# Altium footprint library WL-SMCW_1206.PcbLib: 1 footprints
Each footprint in its own frame and in the unit in brackets; x right, y up, seen from the top. Pads: shape width x height; smd on the part's side, far side on the other; paste and mask are expansions set on the pad; w line width, h text height; cw(c..) or ccw(c..) is an arc to the next point about the centre after c.
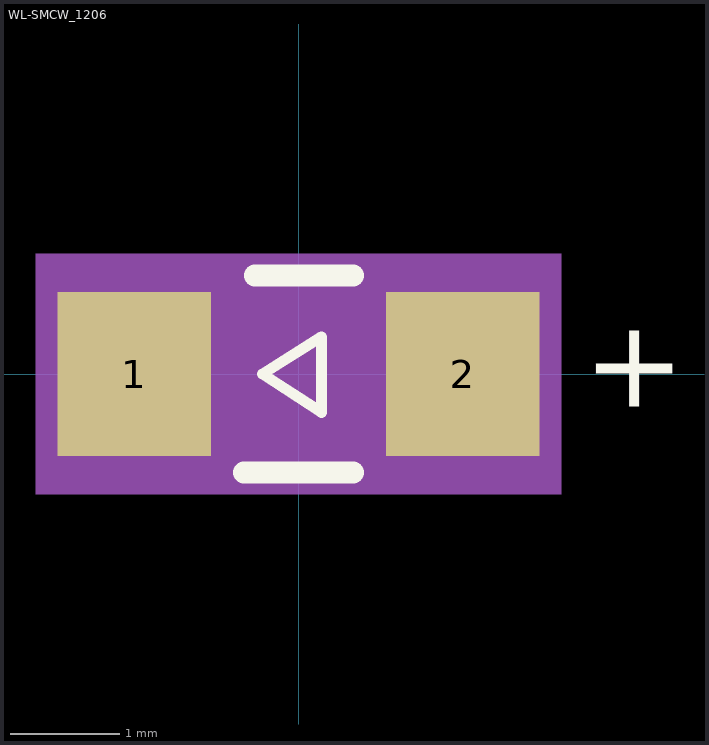
[diagram p0: the footprint, top view; thin cyan lines are the x and y axes]

## WL-SMCW_1206 [mm]
pads (2):
  rect 1.4x1.5 smd: 1(-1.5,0) 2(1.5,0)
Top Overlay:
  lines w0.1: -0.33,0 0.21,0.34 0.21,-0.35 -0.33,0
  lines w0.2: -0.5,-0.9 0.5,-0.9 ; -0.4,0.9 0.5,0.9
  text "+" at 2.6,-0.3 h0.81
Assembly Top:
  lines w0.1: -1.6,-0.8 1.6,-0.8 1.6,0.8 -1.6,0.8 -1.6,-0.8 ; -0.33,0 0.21,0.34 0.21,-0.35 -0.33,0
  text "+" at 2.6,-0.3 h0.81
Courtyard Top:
  region: 2.4,-1.1 -2.4,-1.1 -2.4,1.1 2.4,1.1
3D body "step_temp.STEP": height 0.68, standoff 0, extent -1.6,-0.8 1.6,0.8